# Altium schematic symbol library common-schematics.SchLib: 22 symbols
Pins are listed as number, name and electrical type; pins without a type are passive.

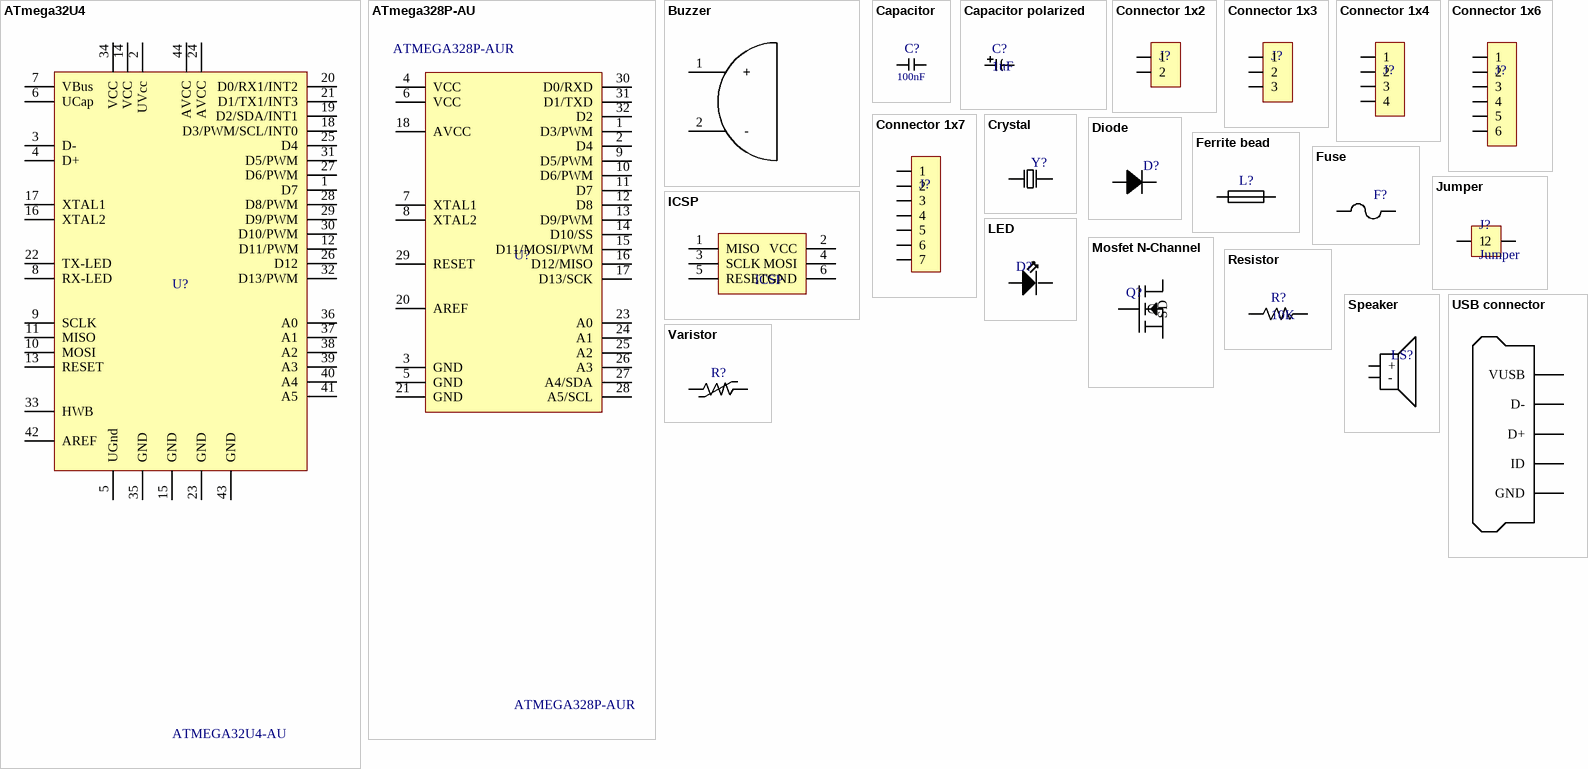
[diagram p0: symbols ATmega32U4 to Varistor]

## ATmega32U4
designator U?, comment ATMEGA32U4-AU
8-bit AVR Microcontroller, 2.7-5.5V, 16MHz, 32KB Flash, 1KB EEPROM, 2.5KB SRAM, USB Controller, 44-pin TQFP, Industrial Grade (-40°C to 85°C), Ext Osc; Manufacturer: Atmel; Connectivity: I²C, SPI, UART/USART, USB; Peripherals: Brown-out Detect/Reset, POR, PWM, WDT; Number of I/O: 26; Program Memory Size: 32KB (16K x 16); EEPROM Size: 1K x 8; RAM Size: 2.5K x 8; Voltage - Supply (Vcc/Vdd): 2.7 V ~ 5.5 V; Data Converters: A/D 12x10b; Oscillator Type: Internal; DatasheetVersion: revF, Nov-2010; PackageVersion: rev.G, Jul-2007; PackageReference: 44ML; PackageDescription: 44-Pin Plastic Thin Quad Flat Pack, 10 x 10 x 1.0 mm Body, 0.8 mm Pitch (TQFP); ComponentLink1Description: Manufacturer URL; ComponentLink1URL: http://www.atmel.com/; ComponentLink2Description: ATmega16U4/32U4 Datasheet; ComponentLink2URL: http://www.atmel.com/dyn/resources/prod_documents/doc7766.pdf; ComponentLink3Description: ATmega16U4 ATmega32U4 Summary; ComponentLink3URL: http://www.atmel.com/dyn/resources/prod_documents/7766S.pdf; Supplier 1: Digi-Key; RoHS: RoHS Compliant; Category: Integrated Circuits (ICs); Stock 1: 11716; Pricing 1: 1=6.32, 10=5.684, 25=5.1788, 100=4.6737, 250=4.29472, 500=3.91576, 1000=3.50875 (USD); Packaging: Tray; Core Processor: AVR; Core Size: 8-Bit; Speed: 16MHz; Program Memory Type: FLASH; Operating Temperature: -40°C ~ 85°C; Package / Case: 44-TQFP; Supplier Device Package: 44-TQFP (10x10); ComponentLink4URL: http://media.digikey.com/pdf/Data%20Sheets/Atmel%20PDFs/ATmega16U4,32U4.pdf; ComponentLink4Description: http://media.digikey.com/pdf/Data%20Sheets/Atmel%20PDFs/ATmega16U4,32U4.pdf; Supplier Part Number 1: ATMEGA32U4-AU-ND; Manufacturer Part Number: ATMEGA32U4-AU
footprint TQFP44 (TQFP, 44-Leads, Body 10,00x10,00mm, Pitch 0,80mm)
pins: 1 D7 (power), 2 UVcc (power), 3 D- (power), 4 D+ (power), 5 UGnd (power), 6 UCap (power), 7 VBus (power), 8 RX-LED (power), 9 SCLK (power), 10 MOSI (power), 11 MISO (power), 12 D11/PWM (power), 13 RESET (power), 14 VCC (power), 15 GND (power), 16 XTAL2 (power), 17 XTAL1 (power), 18 D3/PWM/SCL/INT0 (power), 19 D2/SDA/INT1 (power), 20 D0/RX1/INT2 (power), 21 D1/TX1/INT3 (power), 22 TX-LED (power), 23 GND (power), 24 AVCC (power), 25 D4 (power), 26 D12 (power), 27 D6/PWM (power), 28 D8/PWM (power), 29 D9/PWM (power), 30 D10/PWM (power), 31 D5/PWM (power), 32 D13/PWM (power), 33 HWB (power), 34 VCC (power), 35 GND (power), 36 A0 (power), 37 A1 (power), 38 A2 (power), 39 A3 (power), 40 A4 (power), 41 A5 (power), 42 AREF (power), 43 GND (power), 44 AVCC (power)

## ATmega328P-AU
designator U?, comment ATMEGA328P-AUR
8-bit AVR Microcontroller, 32KB Flash, 1KB EEPROM, 2KB SRAM, 32-pin TQFP, Industrial Grade (-40°C to 85°C); Manufacturer: Atmel; Speed: 20MHz; Connectivity: I²C, SPI, UART/USART; Peripherals: Brown-out Detect/Reset, POR, PWM, WDT; Number of I/O: 23; Program Memory Size: 32KB (16K x 16); EEPROM Size: 1K x 8; RAM Size: 2K x 8; Voltage - Supply (Vcc/Vdd): 1.8 V ~ 5.5 V; Data Converters: A/D 8x10b; Oscillator Type: Internal; Published: 1-Apr-2010; DatasheetVersion: revA, Jan-2010; PackageVersion: revB, Oct-2001; PackageReference: 32A; Publisher: Altium Limited; PackageDescription: 32-Lead, 7x7x1.0 mm Body, 0.8mm Lead Pitch, Thin Profile Plastic Quad Flat Package (TQFP); Supplier 1: Digi-Key; Supplier Part Number 1: ATMEGA328P-AU-ND; Supplier 2: Farnell; Supplier Part Number 2: 1715486; Supplier 3: Mouser; Supplier Part Number 3: 556-ATMEGA328P-AU; Code_JEDEC: MS-026-ABA; ComponentLink1Description: Manufacturer Link; ComponentLink1URL: http://www.atmel.com/products/avr/default.asp?; ComponentLink2Description: ATmega48A/48PA/88A/88PA/168A/168PA/328/328P Datasheet; ComponentLink2URL: http://www.atmel.com/dyn/resources/prod_documents/8271.pdf; ComponentLink3Description: ATmega48A/48PA/88A/88PA/168A/168PA/328/328P Summary; ComponentLink3URL: http://www.atmel.com/dyn/resources/prod_documents/8271S.pdf; ComponentLink4Description: Atmel.com Home; ComponentLink4URL: http://www.atmel.com; Supplier 4: Digi-Key; RoHS: RoHS Compliant; Category: Integrated Circuits (ICs); Stock 4: 7031; Pricing 4: 1=3.7, 10=3.305, 25=2.9748, 100=2.7103, 250=2.44588, 500=2.19468, 1000=1.85094 (USD); Packaging: Cut Tape (CT); Core Processor: AVR; Core Size: 8-Bit; Program Memory Type: FLASH; Operating Temperature: -40°C ~ 85°C; Package / Case: 32-TQFP; Supplier Device Package: 32-TQFP (7x7); ComponentLink5URL: http://www.atmel.com/images/atmel-8271-8-bit-avr-microcontroller-atmega48a-48pa-88a-88pa-168a-168pa-328-328p_datasheet_summary.pdf; ComponentLink5Description: http://www.atmel.com/images/atmel-8271-8-bit-avr-microcontroller-atmega48a-48pa-88a-88pa-168a-168pa-328-328p_datasheet_summary.pdf; Supplier Part Number 4: ATMEGA328P-AURCT-ND; Manufacturer Part Number: ATMEGA328P-AUR
footprint TQFP32 (Thin QFP, 32-Leads, Body 7x7mm, Pitch 0.8mm, IPC Medium Density)
pins: 1 D3/PWM (power), 2 D4 (power), 3 GND (power), 4 VCC (power), 5 GND (power), 6 VCC (power), 7 XTAL1 (power), 8 XTAL2 (power), 9 D5/PWM (power), 10 D6/PWM (power), 11 D7 (power), 12 D8 (power), 13 D9/PWM (power), 14 D10/SS (power), 15 D11/MOSI/PWM (power), 16 D12/MISO (power), 17 D13/SCK (power), 18 AVCC (power), 20 AREF (power), 21 GND (power), 23 A0 (power), 24 A1 (power), 25 A2 (power), 26 A3 (power), 27 A4/SDA (power), 28 A5/SCL (power), 29 RESET (power), 30 D0/RXD (power), 31 D1/TXD (power), 32 D2 (power)

## Buzzer
designator SG?  (value not drawn)
footprint BUZZER-ABI-017-RC (ABI-017-RC Buzzer)
footprint BUZZER-MCKPM09-G04B18-K4036 (MMULTICOMP  MCKPM09-G04B18-K4036  MAGNETIC BUZZER AND TRANSDUCERMULTICOMP  MCKPM09-G04B18-K4036  MAGNETIC BUZZER AND TRANSDUCER)
pins: 1 +, 2 -

## Capacitor
designator C?, comment 100nF
Capacitor; Value: 100nF
footprint CAP-0603-GEN (Non-polarized 0603 (1608) chip capacitor)
pins: 1, 2

## Capacitor polarized
designator C?, comment 1uF
Polarized capacitor; Value: 1uF
footprint CAP-0603-POL (0603 (1608) polarized chip capacitor)
footprint CAP-2412-POL (2412 (6032) polarized chip capacitor)
footprint CAP-1206-POL (1206 (3216) polarized chip capacitor)
pins: 1, 2

## Connector 1x2
designator J?  (value not drawn)
Single row two pin header
footprint PINHEADER 1x2 1.27 (Small 1.27mm pitch single row two pin header)
footprint PINHEADER 1x2 1.27 Jumper (Small 1.27mm pitch single row two pin header)
footprint JST-2-XH-A
footprint Screw terminal 5mm
footprint JST-2-PH (JST-PH single row two contact connector)
footprint JST-2-PA-H-SMD (JS PA 2 pin horizontal SMD connector)
pins: 1, 2

## Connector 1x3
designator J?  (value not drawn)
Single row three pin header
footprint JST-3-PH (JST-PH single row three contact connector)
pins: 1, 2, 3

## Connector 1x4
designator J?  (value not drawn)
Single row four pin header
footprint PINHEADER 1x4 2.54 (Single row four pin header)
footprint PINHEADER 1x4 2.54 right angle (Single row four pin header)
footprint JST-4-XH-A
footprint JST-4-PH (JST-PH single row four contact connector)
pins: 1, 2, 3, 4

## Connector 1x6
designator J?  (value not drawn)
Single row six pin header
footprint Screw terminal 1x6 5mm
pins: 1, 2, 3, 4, 5, 6

## Connector 1x7
designator J?  (value not drawn)
Single row seven pin header
footprint PINHEADER 1x7 1.27 (Small 1.27mm pitch single row seven pin header)
footprint DF13-7V-TH (Single row two contact connector)
pins: 1, 2, 3, 4, 5, 6, 7

## Crystal
designator Y?, comment 16MHz  (value not drawn)
Crystal; Value: 16MHz
footprint CRYSTAL 5032 (SMD Crystal 5x3.2mm)
pins: 1, 2

## Diode
designator D?  (value not drawn)
footprint DIODE 0603 (0603 (1608) Diode)
pins: 1 Anode, 2 Cathode

## Ferrite bead
designator L?
Ferrite bead
footprint FERRITE-0603 (Chip resistor 0603 (1608))
footprint FERRITE-1206 (1206 (3216) ferrite bead)
pins: 1, 2

## Fuse
designator F?  (value not drawn)
footprint FUSE-0603 (0603 (1608) resettable fuse)
pins: 1, 2

## ICSP
designator J?
In-circuit serial programmer interface
footprint ICSP-HEADER (ICSP standard header)
pins: 1 MISO, 2 VCC, 3 SCLK, 4 MOSI, 5 RESET, 6 GND

## Jumper
designator J?
footprint PINHEADER 1x2 1.27 Jumper (Small 1.27mm pitch single row two pin header)
pins: 1, 2

## LED
designator D?
LED
footprint LED 0603 (0603 (1608) LED)
footprint LED 0603 Red
footprint LED 0603 Yellow
footprint LED 0603 Green
pins: 1 Anode, 2 Cathode

## Mosfet N-Channel
designator Q?
Mosfet N-Channel
footprint SOT23-3
pins: 1 G, 2 S, 3 D

## Resistor
designator R?, comment 10K
Resistor; Value: 10K
footprint RESISTOR 0603 (Chip resistor 0603 (1608))
pins: 1, 2

## Speaker
designator LS?  (value not drawn)
Speaker, buzzer
footprint Buzzer, Magnetic KTG1212 (Kingstate SMD magnetic buzzer KTG1212)
pins: 1 +, 2 -

## USB connector
designator USB?, comment USB Connector  (value not drawn)
footprint USB MICRO-B (FCI 10103594-0001LF)
pins: 1 VUSB, 2 D-, 3 D+, 4 ID, 5 GND

## Varistor
designator R?  (value not drawn)
footprint RESISTOR 0603 (Chip resistor 0603 (1608))
pins: 1, 2